# Altium footprint library HLK-7621-ALL-KIT-V1.0.PcbLib: 28 footprints (part 1 of 2)
Each footprint in its own frame and in the unit in brackets; x right, y up, seen from the top. Pads: shape width x height; smd on the part's side, far side on the other; paste and mask are expansions set on the pad; w line width, h text height; cw(c..) or ccw(c..) is an arc to the next point about the centre after c.
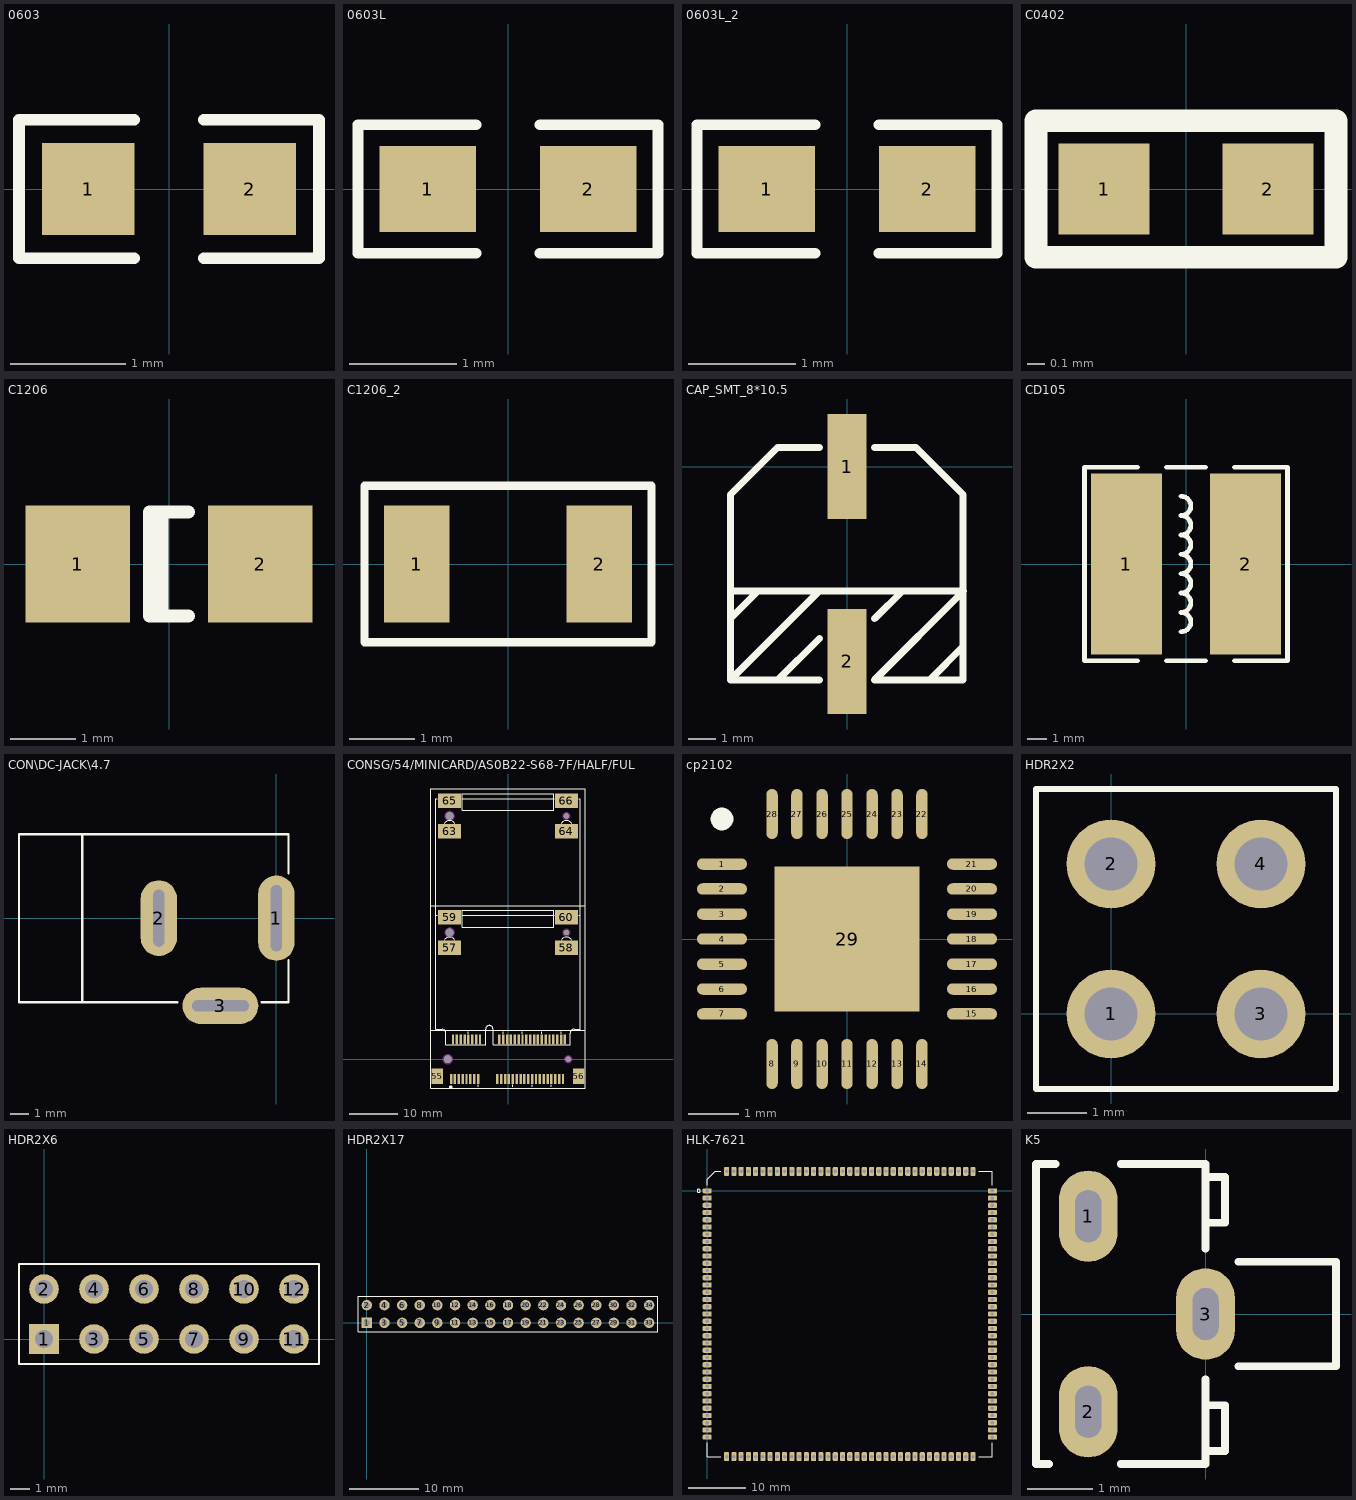
[diagram p0: the footprints below, top view; thin cyan lines are the x and y axes]

## 0603 [mm]
height 10
pads (2):
  rect 0.8x0.8 smd: 1(-0.7,0) 2(0.7,0)
Top Overlay:
  lines w0.102: -0.3,-0.6 -1.3,-0.6 -1.3,0.6 -0.3,0.6 ; 0.3,-0.6 1.3,-0.6 1.3,0.6 0.3,0.6

## 0603L [mm]
pads (2):
  rect 0.9x0.8 smd: 1(-0.75,0) 2(0.75,0)
Top Overlay:
  lines w0.102: -0.3,-0.6 -1.4,-0.6 -1.4,0.6 -0.3,0.6 ; 0.3,-0.6 1.4,-0.6 1.4,0.6 0.3,0.6

## 0603L_2 [mm]
pads (2):
  rect 0.9x0.8 smd: 1(-0.75,0) 2(0.75,0)
Top Overlay:
  lines w0.102: -0.3,-0.6 -1.4,-0.6 -1.4,0.6 -0.3,0.6 ; 0.3,-0.6 1.4,-0.6 1.4,0.6 0.3,0.6

## C0402 [mil]
height 19.68
pads (2):
  rect 20x20 smd: 1(-18,0) 2(18,0)
Top Overlay:
  lines w5: -33,-15 33,-15 33,15 -33,15 -33,-15

## C1206 [mm] "Chip Capacitor; Body 3.2 x 1.6 mm (LxW typ)"
height 1.35
pads (2):
  rect 1.6x1.8 smd: 1(-1.4,0) 2(1.4,0)
Top Overlay:
  lines w0.2: -0.11,-0.8 -0.11,0.8 ; 0.3,-0.8 -0.3,-0.8 -0.3,0.8 0.3,0.8

## C1206_2 [mm]
pads (2):
  rect 1x1.8 smd: 1(-1.4,0) 2(1.4,0)
Top Overlay:
  lines w0.127: -2.2,-1.2 -2.2,1.2 2.2,1.2 2.2,-1.2 -2.2,-1.2

## CAP_SMT_8*10.5 [mm]
height 1.5
pads (2):
  rect 1.4x3.8 smd: 1(0,0) 2(0,-7.051)
Top Overlay:
  lines w0.254: -4.219,-5.5 -3.219,-4.5 ; -4.219,-4.5 4.198,-4.5 ; -2.5,-7.714 -1,-6.214 ; -1.005,-4.5 -4.219,-7.714 ; -1,-7.714 -4.219,-7.714 ; -1,0.686 -2.52,0.686 -4.219,-1.013 -4.219,-7.714 ; 1,-5.5 2,-4.5 ; 1,0.686 2.499,0.686 4.198,-1.013 4.198,-7.714 1,-7.714 4.214,-4.5 ; 3,-7.714 4.198,-6.516

## CD105 [mm] "10*9*5.4mm（长宽高）"
height 1.99
pads (2):
  rect 3.75x9.5 smd: 1(-3.125,0) 2(3.125,0)
Top Overlay:
  lines w0.254: -2.54,-5.08 -5.334,-5.08 -5.334,5.08 -2.54,5.08 ; -1.016,-5.08 1.016,-5.08 ; -1.016,5.08 1.016,5.08 ; -0.254,-3.556 ccw(c-0.254,-3.048) -0.254,-2.54 ccw(c-0.254,-2.032) -0.254,-1.524 ccw(c-0.254,-1.016) -0.254,-0.508 ccw(c-0.254,0) -0.254,0.508 ccw(c-0.254,1.016) -0.254,1.524 ccw(c-0.254,2.032) -0.254,2.54 ccw(c-0.254,3.048) -0.254,3.556 ; 2.54,-5.08 5.334,-5.08 5.334,5.08 2.54,5.08
3D body "CD105.STEP": height 5.5, standoff 0, extent -4.954,-4.5 4.954,4.5

## CON\DC-JACK\4.7 [mm]
pads (3):
  oval 1.956x4.572 hole 0.6 slot 3.556 at 90 deg: 1(0,0)
  oval 1.956x4.064 hole 0.6 slot 3.048 at 90 deg: 2(-6.3,0)
  oval 4.064x1.956 hole 0.6 slot 3.048 at 0 deg: 3(-3,-4.7)
Top Overlay:
  lines w0.127: -10.4,-4.5 -10.4,4.5 ; -5.3,-4.5 -13.8,-4.5 -13.8,4.5 0.65,4.5 0.65,2.4 ; -0.8,-4.5 0.65,-4.5 0.65,-2.25

## CONSG/54/MINICARD/AS0B22-S68-7F/HALF/FUL [mm]
pads (68):
  rect 0.508x2 smd: 1(-11.8,-4.1) 2(-11.4,4.1) 3(-11,-4.1) 4(-10.6,4.1) 5(-10.2,-4.1) 6(-9.8,4.1) 7(-9.4,-4.1) 8(-9,4.1) 9(-8.6,-4.1) 10(-8.2,4.1) 11(-7.8,-4.1) 12(-7.4,4.1) 13(-7,-4.1) 14(-6.6,4.1) 15(-6.2,-4.1) 16(-5.8,4.1) 17(-2.2,-4.1) 18(-1.8,4.1) 19(-1.4,-4.1) 20(-1,4.1) 21(-0.6,-4.1) 22(-0.2,4.1) 23(0.2,-4.1) 24(0.6,4.1) 25(1,-4.1) 26(1.4,4.1) 27(1.8,-4.1) 28(2.2,4.1) 29(2.6,-4.1) 30(3,4.1) 31(3.4,-4.1) 32(3.8,4.1) 33(4.2,-4.1) 34(4.6,4.1) 35(5,-4.1) 36(5.4,4.1) 37(5.8,-4.1) 38(6.2,4.1) 39(6.6,-4.1) 40(7,4.1) 41(7.4,-4.1) 42(7.8,4.1) 43(8.2,-4.1) 44(8.6,4.1) 45(9,-4.1) 46(9.4,4.1) 47(9.8,-4.1) 48(10.2,4.1) 49(10.6,-4.1) 50(11,4.1) 51(11.4,-4.1) 52(11.8,4.1)
  round 1.6 hole 1.6 unplated: 53(-12.5,0) 61(-12.1,26.25) 67(-12.1,50.4)
  round 1.1 hole 1.1 unplated: 54(12.5,0) 62(12.1,26.25) 68(12.1,50.4)
  rect 2.3x3.2 smd: 55(-14.65,-3.5) 56(14.65,-3.5)
  rect 4.8x3 smd: 57(-12.1,23.1) 58(12.1,23.1) 59(-12.1,29.4) 60(12.1,29.4) 63(-12.1,47.25) 64(12.1,47.25) 65(-12.1,53.55) 66(12.1,53.55)
Top Overlay:
  region: -11.516,-5.817 -11.516,-5.748 -11.569,-5.621 -11.666,-5.524 -11.793,-5.471 -11.862,-5.471 -11.931,-5.471 -12.057,-5.524 -12.155,-5.621 -12.207,-5.748 -12.207,-5.817 -12.207,-5.885 -12.155,-6.012 -12.057,-6.109 -11.931,-6.162 -11.862,-6.162 -11.793,-6.162 -11.666,-6.109 -11.569,-6.012 -11.516,-5.885
  lines w0.127: -14.65,29.8 -15,29.8 -15,6.2 ; -14.65,53.95 -15,53.95 -15,6.2 ; -13.2,24.7 cw(c-12.1,23.992) -11,24.7 ; -13.2,48.85 cw(c-12.1,48.142) -11,48.85 ; -9.6,29.8 9.55,29.8 ; -9.6,53.95 9.55,53.95 ; -8.2,5.3 -8.2,5.7 ; -6.2,-5.7 -6.2,-5.3 ; -1,5.3 -1,5.7 ; 1,-5.7 1,-5.3 ; 3,5.3 3,5.7 ; 5,-5.7 5,-5.3 ; 7,5.3 7,5.7 ; 9,-5.7 9,-5.3 ; 11,5.3 11,5.7 ; 11,24.7 cw(c12.1,23.992) 13.2,24.7 ; 11,48.85 cw(c12.1,48.142) 13.2,48.85 ; 14.65,29.8 15,29.8 15,6.2 ; 14.65,53.95 15,53.95 15,6.2 ; -16,-6 -16,6 ; -16,-6 16,-6 ; -16,-6 -16,56 16,56 16,-6 ; -16,-6 16,-6 ; -16,-6 -16,31.85 16,31.85 16,-6 ; -16,-6 16,-6 ; -16,-6 -16,6 ; -16,-6 16,-6 ; -16,6 16,6 ; -16,6 16,6 ; -15,6.2 -13.61,6.2 ; -15,6.2 -13.61,6.2 ; -13.611,6.2 cw(c-13.637,5.413) -12.85,5.45 ; -13.611,6.2 cw(c-13.637,5.413) -12.85,5.45 ; -12.85,3 -4.6,3 ; -12.85,3 -12.85,5.45 ; -12.85,3 -4.6,3 ; -12.85,3 -12.85,5.45 ; -4.6,3 -4.6,6.25 ; -4.6,3 -4.6,6.25 ; -4.6,6.25 cw(c-3.85,6.25) -3.1,6.25 ; -4.6,6.25 cw(c-3.85,6.25) -3.1,6.25 ; -3.1,3 12.9,3 ; -3.1,3 -3.1,6.25 ; -3.1,3 12.9,3 ; -3.1,3 -3.1,6.25 ; 12.9,3 12.9,5.4 ; 12.9,3 12.9,5.4 ; 12.9,5.4 cw(c13.669,5.432) 13.71,6.2 ; 12.9,5.4 cw(c13.669,5.432) 13.71,6.2 ; 13.71,6.2 15,6.2 ; 13.71,6.2 15,6.2 ; 16,-6 16,6 ; 16,-6 16,6 ; -9.5,27.4 -9.5,30.9 9.5,30.9 9.5,27.4 -9.5,27.4 ; -9.5,51.55 -9.5,55.05 9.5,55.05 9.5,51.55 -9.5,51.55
Keep-Out Layer:
  drawing of 6 lines, arcs and shapes, not listed

## cp2102 [mm]
pads (29):
  oval 1x0.23 smd: 1(-2.5,1.5) 2(-2.5,1) 3(-2.5,0.5) 4(-2.5,0) 5(-2.5,-0.5) 6(-2.5,-1) 7(-2.5,-1.5) 15(2.5,-1.5) 16(2.5,-1) 17(2.5,-0.5) 18(2.5,0) 19(2.5,0.5) 20(2.5,1) 21(2.5,1.5)
  oval 0.23x1 smd: 8(-1.5,-2.5) 9(-1,-2.5) 10(-0.5,-2.5) 11(0,-2.5) 12(0.5,-2.5) 13(1,-2.5) 14(1.5,-2.5) 22(1.5,2.5) 23(1,2.5) 24(0.5,2.5) 25(0,2.5) 26(-0.5,2.5) 27(-1,2.5) 28(-1.5,2.5)
  rect 2.9x2.9 smd: 29(0,0)
Top Overlay:
  circle w0.254: c-2.5,2.4 r0.1

## HDR2X2 [mm] "Connector; Header; 2x2 Position"
height 1
pads (4):
  round 1.5 hole 0.9: 1(0,0) 2(0,2.54) 3(2.54,0) 4(2.54,2.54)
Top Overlay:
  lines w0.1: -1.27,-1.27 3.81,-1.27 3.81,3.81 -1.27,3.81 -1.27,-1.27

## HDR2X6 [mm] "Connector; Header; 6x2 Position"
pads (12):
  rect 1.5x1.5 hole 0.9: 1(0,0)
  round 1.5 hole 0.9: 2(0,2.54) 3(2.54,0) 4(2.54,2.54) 5(5.08,0) 6(5.08,2.54) 7(7.62,0) 8(7.62,2.54) 9(10.16,0) 10(10.16,2.54) 11(12.7,0) 12(12.7,2.54)
Top Overlay:
  lines w0.1: -1.27,-1.27 13.97,-1.27 13.97,3.81 -1.27,3.81 -1.27,-1.27

## HDR2X17 [mm] "Connector; Header; 17x2 Position"
height 1
pads (34):
  rect 1.5x1.5 hole 0.9: 1(0,0)
  round 1.5 hole 0.9: 2(0,2.54) 3(2.54,0) 4(2.54,2.54) 5(5.08,0) 6(5.08,2.54) 7(7.62,0) 8(7.62,2.54) 9(10.16,0) 10(10.16,2.54) 11(12.7,0) 12(12.7,2.54) 13(15.24,0) 14(15.24,2.54) 15(17.78,0) 16(17.78,2.54) 17(20.32,0) 18(20.32,2.54) 19(22.86,0) 20(22.86,2.54) 21(25.4,0) 22(25.4,2.54) 23(27.94,0) 24(27.94,2.54) 25(30.48,0) 26(30.48,2.54) 27(33.02,0) 28(33.02,2.54) 29(35.56,0) 30(35.56,2.54) 31(38.1,0) 32(38.1,2.54) 33(40.64,0) 34(40.64,2.54)
Top Overlay:
  lines w0.1: -1.27,-1.27 -1.27,3.81 41.91,3.81 41.91,-1.27 -1.27,-1.27

## HLK-7621 [mm]
height 1
pads (141):
  rrect50% 1.6x0.9 hole 0.6: 1(0,0) 2(0,-1.27) 3(0,-2.54) 4(0,-3.81) 5(0,-5.08) 6(0,-6.35) 7(0,-7.62) 8(0,-8.89) 9(0,-10.16) 10(0,-11.43) 11(0,-12.7) 12(0,-13.97) 13(0,-15.24) 14(0,-16.51) 15(0,-17.78) 16(0,-19.05) 17(0,-20.32) 18(0,-21.59) 19(0,-22.86) 20(0,-24.13) 21(0,-25.4) 22(0,-26.67) 23(0,-27.94) 24(0,-29.21) 25(0,-30.48) 26(0,-31.75) 27(0,-33.02) 28(0,-34.29) 29(0,-35.56) 30(0,-36.83) 31(0,-38.1) 32(0,-39.37) 33(0,-40.64) 34(0,-41.91) 35(0,-43.18) 71(50,-43.18) 72(50,-41.91) 73(50,-40.64) 74(50,-39.37) 75(50,-38.1) 76(50,-36.83) 77(50,-35.56) 78(50,-34.29) 79(50,-33.02) 80(50,-31.75) 81(50,-30.48) 82(50,-29.21) 83(50,-27.94) 84(50,-26.67) 85(50,-25.4) 86(50,-24.13) 87(50,-22.86) 88(50,-21.59) 89(50,-20.32) 90(50,-19.05) 91(50,-17.78) 92(50,-16.51) 93(50,-15.24) 94(50,-13.97) 95(50,-12.7) 96(50,-11.43) 97(50,-10.16) 98(50,-8.89) 99(50,-7.62) 100(50,-6.35) 101(50,-5.08) 102(50,-3.81) 103(50,-2.54) 104(50,-1.27) 105(50,0)
  rrect50% 0.9x1.6 hole 0.6: 36(3.41,-46.59) 37(4.68,-46.59) 38(5.95,-46.59) 39(7.22,-46.59) 40(8.49,-46.59) 41(9.76,-46.59) 42(11.03,-46.59) 43(12.3,-46.59) 44(13.57,-46.59) 45(14.84,-46.59) 46(16.11,-46.59) 47(17.38,-46.59) 48(18.65,-46.59) 49(19.92,-46.59) 50(21.19,-46.59) 51(22.46,-46.59) 52(23.73,-46.59) 53(25,-46.59) 54(26.27,-46.59) 55(27.54,-46.59) 56(28.81,-46.59) 56(28.81,-46.59) 57(30.08,-46.59) 58(31.35,-46.59) 59(32.62,-46.59) 60(33.89,-46.59) 61(35.16,-46.59) 62(36.43,-46.59) 63(37.7,-46.59) 64(38.97,-46.59) 65(40.24,-46.59) 66(41.51,-46.59) 67(42.78,-46.59) 68(44.05,-46.59) 69(45.32,-46.59) 70(46.59,-46.59) 106(46.59,3.41) 107(45.32,3.41) 108(44.05,3.41) 109(42.78,3.41) 110(41.51,3.41) 111(40.24,3.41) 112(38.97,3.41) 113(37.7,3.41) 114(36.43,3.41) 115(35.16,3.41) 116(33.89,3.41) 117(32.62,3.41) 118(31.35,3.41) 119(30.08,3.41) 120(28.81,3.41) 121(27.54,3.41) 122(26.27,3.41) 123(25,3.41) 124(23.73,3.41) 125(22.46,3.41) 126(21.19,3.41) 127(19.92,3.41) 128(18.65,3.41) 129(17.38,3.41) 130(16.11,3.41) 131(14.84,3.41) 132(13.57,3.41) 133(12.3,3.41) 134(11.03,3.41) 135(9.76,3.41) 136(8.49,3.41) 137(7.22,3.41) 138(5.95,3.41) 139(4.68,3.41) 140(3.41,3.41)
Top Overlay:
  circle w0.15: c-1.5,0 r0.283
  lines w0.15: 0,-44.18 0,-46.59 2.41,-46.59 ; 0,1 0,2 1.41,3.41 2.41,3.41 ; 47.59,-46.59 50,-46.59 50,-44.18 ; 47.59,3.41 50,3.41 50,1

## K5 [mm]
pads (3):
  oval 0.9x1.4 hole 0.4 slot 0.8 at 90 deg: 1(-1.8,1.5) 2(-1.8,-1.5) 3(0,0)
Top Overlay:
  lines w0.12: -2.4,-2.3 -2.6,-2.3 -2.6,2.3 -2.3,2.3 ; -1.3,-2.3 0,-2.3 0,-1 ; -1.3,2.3 0,2.3 0,1 ; 0,-2.1 0.3,-2.1 0.3,-1.4 0,-1.4 ; 0,1.4 0.3,1.4 0.3,2.1 0,2.1 ; 0.5,-0.8 2,-0.8 2,0.8 0.5,0.8